# Altium footprint library BOURNS_PEC11R.PcbLib: 1 footprints
Each footprint in its own frame and in the unit in brackets; x right, y up, seen from the top. Pads: shape width x height; smd on the part's side, far side on the other; paste and mask are expansions set on the pad; w line width, h text height; cw(c..) or ccw(c..) is an arc to the next point about the centre after c.
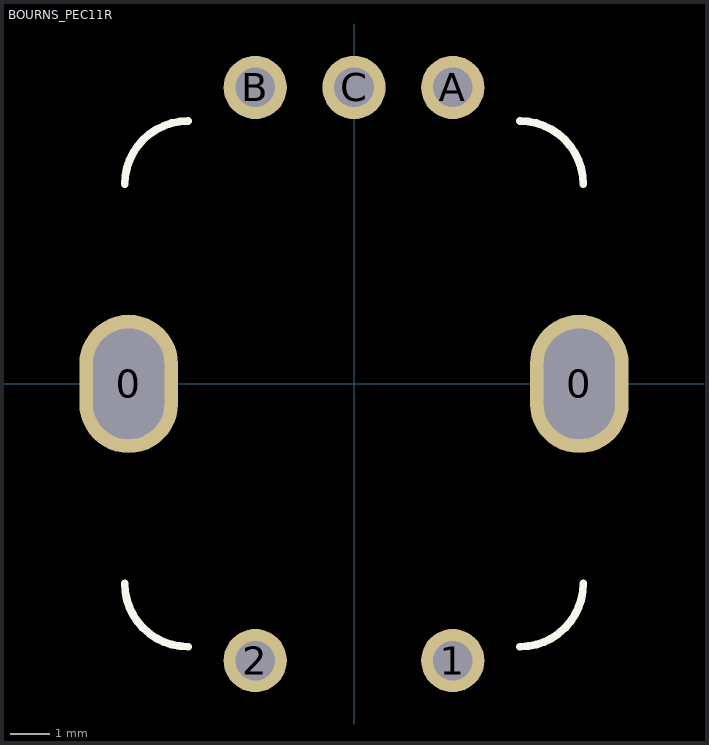
[diagram p0: the footprint, top view; thin cyan lines are the x and y axes]

## BOURNS_PEC11R [mm] "Bourns Rotary Encoder, PEC11R Series"
pads (7):
  oval 2.5x3.5 hole 2.8 slot 1.8 at 0 deg: 0(-5.7,0) 0(5.7,0)
  round 1.6 hole 1: 1(2.5,-7) 2(-2.5,-7) A(2.5,7.5) B(-2.5,7.5) C(0,7.5)
Top Overlay:
  lines w0.2: -5.8,-5.05 ccw(c-4.2,-5.05) -4.2,-6.65 ; -5.8,5.05 cw(c-4.2,5.05) -4.2,6.65 ; 4.2,-6.65 ccw(c4.2,-5.05) 5.8,-5.05 ; 4.2,6.65 cw(c4.2,5.05) 5.8,5.05
3D body "pec11r-4x20f-sxxxx.stp": height 26.6, standoff -3.6, extent -7,-7.25 7,7.65